# Altium footprint library TO127P1500X470-8N-2-V1.PcbLib: 1 footprints
Each footprint in its own frame and in the unit in brackets; x right, y up, seen from the top. Pads: shape width x height; smd on the part's side, far side on the other; paste and mask are expansions set on the pad; w line width, h text height; cw(c..) or ccw(c..) is an arc to the next point about the centre after c.
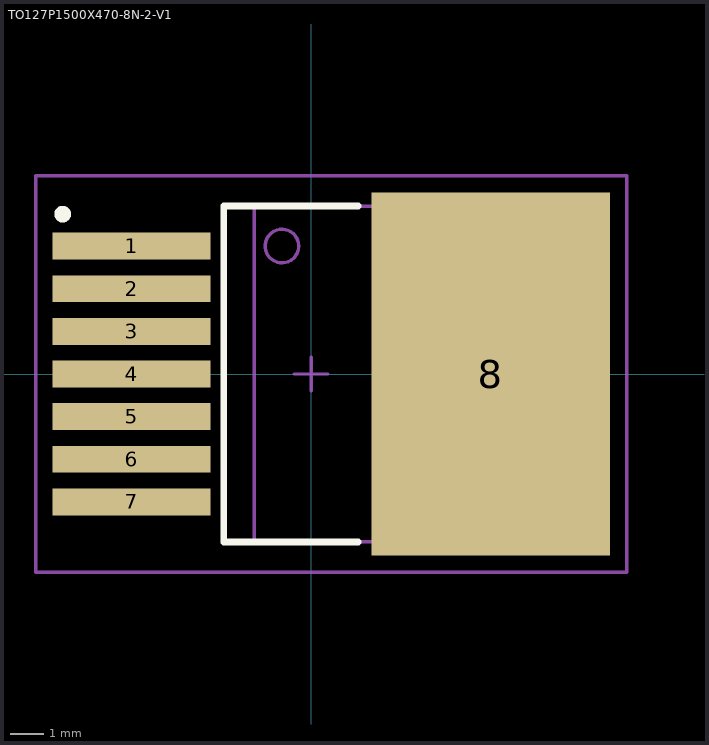
[diagram p0: the footprint, top view; thin cyan lines are the x and y axes]

## TO127P1500X470-8N-2-V1 [mm] "TO,1.27mm pitch;7 pin,15.00mm L X 9.25mm W X 4.70mm H body"
height 4.7
pads (8):
  rect 4.7x0.8 smd paste-0.05 mask+0: 1(-5.35,3.81) 2(-5.35,2.54) 3(-5.35,1.27) 4(-5.35,0) 5(-5.35,-1.27) 6(-5.35,-2.54) 7(-5.35,-3.81)
  rect 7.1x10.8 smd paste-3.55 mask+0: 8(5.35,0)
Top Overlay:
  circle w0.25: c-7.4,4.76 r0.125
  lines w0.2: 1.4,-5 -2.6,-5 -2.6,5 1.4,5
Top Paste:
  region: 5.195,-0.15 1.845,-0.15 1.845,-5.35 5.195,-5.35
  region: 5.195,5.35 1.845,5.35 1.845,0.15 5.195,0.15
  region: 8.845,-0.15 5.495,-0.15 5.495,-5.35 8.845,-5.35
  region: 8.845,5.35 5.495,5.35 5.495,0.15 8.845,0.15
M3 (ASY_Text_Top):
  text ".DESIGNATOR" at 0,0 h1.2
M13 (CMP_Body_OTL_Top):
  circle w0.1: c-0.871,3.81 r0.5
  lines w0.1: -1.7,-5 7.55,-5 7.55,5 -1.7,5 -1.7,-5
M15 (CMP_Courtyard_Top):
  lines w0.1: -0.5,0 0.5,0 ; 0,-0.5 0,0.5 ; -8.2,-5.9 9.4,-5.9 9.4,5.9 -8.2,5.9 -8.2,-5.9
3D body "PG-TO263-7-12_Z8B00189320_01_3D.stp": height 4.51, standoff 0, extent -6.4,-5 8.55,5